# EAGLE library part MI-J61 (library vicor)
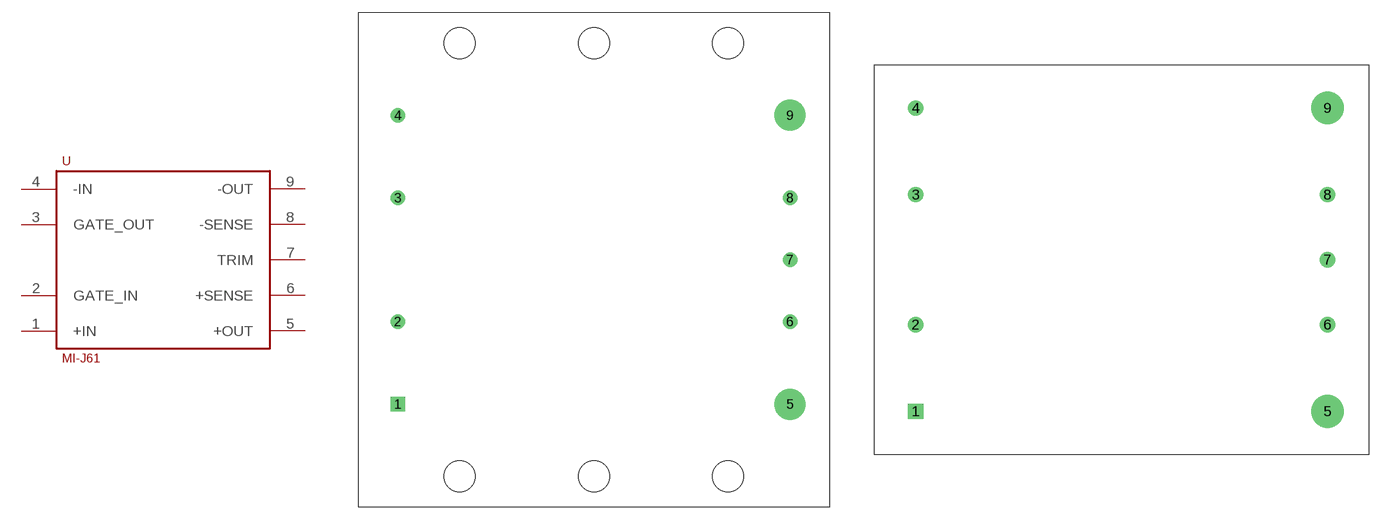
[diagram p3: symbol with the pads of 1_4_BRICK; footprints 1_4_BRICK, 1_4_BRICK_S]

Designator prefix -

## MI-J61  [1_4_BRICK]
1  +IN
2  GATE_IN
3  GATE_OUT
4  -IN
5  +OUT
6  +SENSE
7  TRIM
8  -SENSE
9  -OUT

## MI-J61SLIMMOD  [1_4_BRICK_S]
Pads as for 1_4_BRICK

## Footprint 1_4_BRICK (pad centres in mm)
drill 1.016 pad 1.778 square: 1 0,0
drill 1.016 pad 1.778: 2 0,10.16; 3 0,25.4; 4 0,35.56; 6 48.26,10.16; 7 48.26,17.78; 8 48.26,25.4
drill 2.032 pad 3.81: 5 48.26,0; 9 48.26,35.56
hole 3.81 at 7.62,-8.89
hole 3.81 at 24.13,-8.89
hole 3.81 at 40.64,-8.89
hole 3.81 at 40.64,44.45
hole 3.81 at 24.13,44.45
hole 3.81 at 7.62,44.45

## Footprint 1_4_BRICK_S (pad centres in mm)
drill 1.016 pad 1.778 square: 1 0,0
drill 1.016 pad 1.778: 2 0,10.16; 3 0,25.4; 4 0,35.56; 6 48.26,10.16; 7 48.26,17.78; 8 48.26,25.4
drill 2.032 pad 3.81: 5 48.26,0; 9 48.26,35.56